# EAGLE library part TPS61200 (library Synapseware)
LOW INPUT VOLTAGE SYNCHRONOUS BOOST CONVERTER WITH 1.3-A SWITCHES The TPS6120x devices provide a power supply solution for products powered by either a single-cell, two-cell, or three-cell alkaline, NiCd or NiMH, or one-cell Li-Ion or Li-polymer battery. It is also used in fuel cell or solar cell powered devices where the capability of handling low input voltages is essential. Possible output currents are depending on the input to output voltage ratio. The devices provides output currents up to 600 mA at a 5-V output while using a single-cell Li-Ion or Li-Polymer battery, and discharge it down to 2.5 V. The boost converter is based on a fixed frequency, pulse-width-modulation (PWM) controller using synchronous rectification to obtain maximum efficiency. At low load currents, the converter enters the Power Save mode to maintain a high efficiency over a wide load current range. The Power Save mode can be disabled, forcing the converter to operate at a fixed switching frequency. The maximum average input current is limited to a value of 1500 mA. The output voltage can be programmed by an external resistor divider, or is fixed internally on the chip. The converter can be disabled to minimize battery drain. During shutdown, the load is completely disconnected from the battery. The device is packaged in a 10-pin QFN PowerPAD™ package (DRC) measuring 3 mm x 3 mm
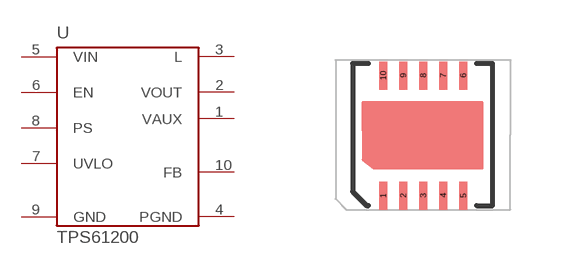
[diagram p4: symbol with the pads of QFN-10; footprint QFN-10]

Designator prefix -

## TPS61200-WQFN  [QFN-10]
1  VAUX
2  VOUT
3  L
4  PGND
5  VIN
6  EN
7  UVLO
8  PS
9  GND
10  FB

## Footprint QFN-10 (pad centres in mm)
QFN-10
smd 0.2 x 0.7: 1 -0.99,-1.5; 2 -0.49,-1.5; 3 0.01,-1.5; 4 0.51,-1.5; 5 1.01,-1.5; 6 1.01,1.5; 7 0.51,1.5; 8 0.01,1.5; 9 -0.49,1.5; 10 -0.99,1.5